# Altium footprint library Crystals_Oscillators.PcbLib: 4 footprints
Each footprint in its own frame and in the unit in brackets; x right, y up, seen from the top. Pads: shape width x height; smd on the part's side, far side on the other; paste and mask are expansions set on the pad; w line width, h text height; cw(c..) or ccw(c..) is an arc to the next point about the centre after c.
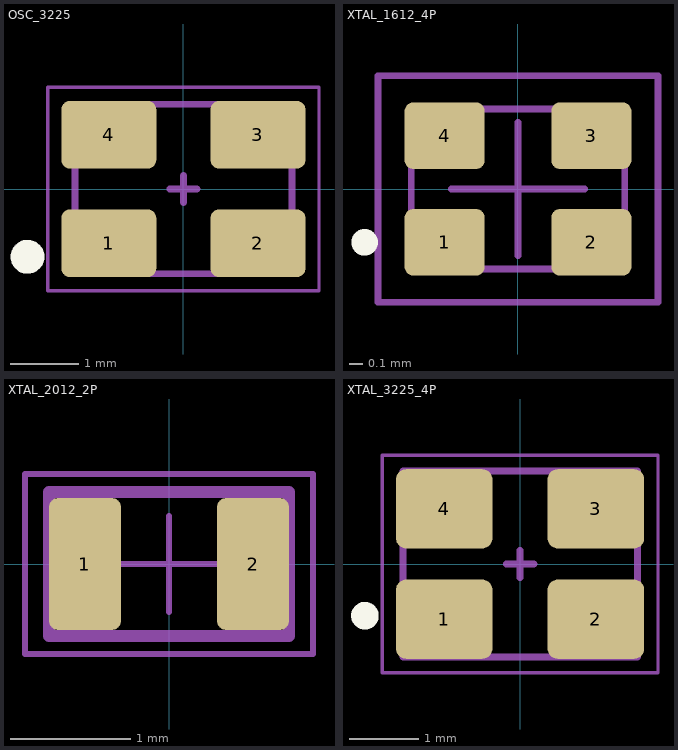
[diagram p0: the footprints below, top view; thin cyan lines are the x and y axes]

## OSC_3225 [mm]
height 1.2
pads (4):
  rrect25% 1.4x1 smd: 1(-1.1,-0.8) 2(1.1,-0.8) 3(1.1,0.8) 4(-1.1,0.8)
Top Overlay:
  circle w0.25: c-2.3,-1 r0.125
Top Component Center:
  lines w0.1: -0.2,0 0,0 ; 0,-0.2 0,0 ; 0,0.2 0,0 ; 0.2,0 0,0
Top Assembly:
  lines w0.1: -1.6,-1.25 1.6,-1.25 1.6,1.25 -1.6,1.25 -1.6,-1.25
Top Designator:
  text ".Designator" at -7.88,-0.508 h1.52
Top 3D Body:
  circle w0.1: c-1.1,-0.75 r0.2
  lines w0.1: -1.6,-1.25 -1.6,1.25 1.6,1.25 1.6,-1.25 -1.6,-1.25
Top Courtyard:
  lines w0.05: -2,-1.5 2,-1.5 2,1.5 -2,1.5 -2,-1.5
3D body "FrqSPXO_CFPS-39.stp": height 1.05, standoff 0, extent -1.6,-1.25 1.6,1.25

## XTAL_1612_4P [mm] "Quartz Crystal, size IQXC-26, body 1.6x1.2mm"
height 0.4
pads (4):
  rrect25% 0.6x0.5 smd: 1(-0.55,-0.4) 2(0.55,-0.4) 3(0.55,0.4) 4(-0.55,0.4)
Top Overlay:
  circle w0.1: c-1.15,-0.4 r0.05
Top Component Center:
  lines w0.05: -0.5,0 0.5,0 ; 0,-0.5 0,0.5
Top Assembly:
  lines w0.05: -0.8,-0.6 -0.8,0.6 0.8,0.6 0.8,-0.6 -0.8,-0.6
Top Designator:
  text ".Designator" at -2.499,-0.167 h0.5
Top Component Outline:
  circle w0.05: c-0.6,-0.4 r0.1
Top 3D Body:
  lines w0.05: -0.8,-0.6 0.8,-0.6 0.8,0.6 -0.8,0.6 -0.8,-0.6
Top Courtyard:
  lines w0.05: -1.05,-0.85 1.05,-0.85 1.05,0.85 -1.05,0.85 -1.05,-0.85
3D body "FrqXTAL_IQXC-26.stp": height 0.4, standoff 0, extent -0.8,-0.6 0.8,0.6

## XTAL_2012_2P [mm]
height 0.6
pads (2):
  rrect25% 0.6x1.1 smd: 1(-0.7,0) 2(0.7,0)
Top Component Center:
  lines w0.05: -0.4,0 0,0 ; 0,-0.4 0,0 ; 0,0.4 0,0 ; 0.4,0 0,0
Top Designator:
  text ".Designator" at -3.499,-0.233 h0.7
Top 3D Body:
  lines w0.1: -1,-0.6 -1,0.6 1,0.6 1,-0.6 -1,-0.6
Top Courtyard:
  lines w0.05: -1.2,-0.75 -1.2,0.75 1.2,0.75 1.2,-0.75 -1.2,-0.75
3D body "FrqXTAL_IQXC-25.stp": height 0.55, standoff 0, extent -1,-0.6 1,0.6

## XTAL_3225_4P [mm] "Quartz Crystal, size CFPX-180, body 3.4x2.7mm"
height 0.8
pads (4):
  rrect25% 1.4x1.15 smd: 1(-1.1,-0.8) 2(1.1,-0.8) 3(1.1,0.8) 4(-1.1,0.8)
Top Overlay:
  circle w0.2: c-2.25,-0.75 r0.1
Top Component Center:
  lines w0.1: -0.2,0 0,0 ; 0,-0.2 0,0 ; 0,0.2 0,0 ; 0.2,0 0,0
Top Assembly:
  lines w0.1: -1.7,-1.35 1.7,-1.35 1.7,1.35 -1.7,1.35 -1.7,-1.35
Top Designator:
  text ".Designator" at -7.83,-0.508 h1.52
Top 3D Body:
  lines w0.1: -1.7,-1.35 1.7,-1.35 1.7,1.35 -1.7,1.35 -1.7,-1.35
Top Courtyard:
  lines w0.05: -2,-1.575 2,-1.575 2,1.575 -2,1.575 -2,-1.575
3D body "FrqXTAL_CFPX-180.stp": height 0.65, standoff 0, extent -1.7,-1.35 1.7,1.35